# EAGLE library part RELAY-DPDT (library Tinkercad)
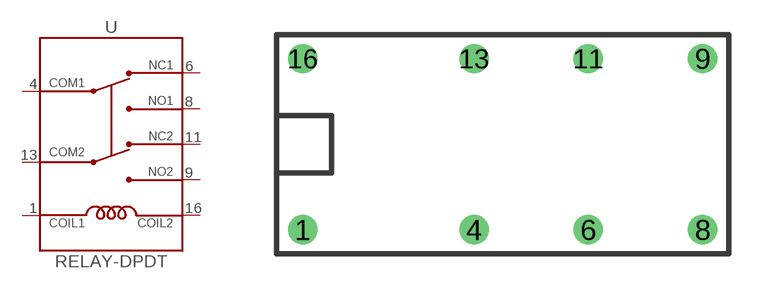
[diagram p53: symbol with the pads of KS2E-M-DC5; footprint KS2E-M-DC5]

Designator prefix -

## RELAY-DPDT_KS2E  [KS2E-M-DC5]
1  COIL1
4  COM1
6  NC1
8  NO1
9  NO2
11  NC2
13  COM2
16  COIL2

## Footprint KS2E-M-DC5 (pad centres in mm)
drill 0.8: 1 -8.89,-3.81; 4 -1.27,-3.81; 6 3.81,-3.81; 8 8.89,-3.81; 9 8.89,3.81; 11 3.81,3.81; 13 -1.27,3.81; 16 -8.89,3.81